# Altium integrated library Switches.IntLib: 2 symbols
Pins are listed as number, name and electrical type; pins without a type are passive.

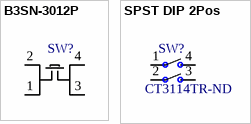
[diagram p0: symbols B3SN-3012P to SPST DIP 2Pos]

## B3SN-3012P
designator SW?
Manufacturer: Omron; Manufacturer Part Number: B3SN-3012P; Mechanical Life: 100000Cycles; Contact Current Rating: 50mA; Operating Force: 1.57N; Voltage Rating (DC): 24V; Throw Configuration: SPST; Contact Resistance: 100mR; Illumination Type: Non-Illuminated,Illuminated; Number of Poles: 1; Electrical Life: 50000Cycles; Switch Travel: 0.25mm; Switch Function: Off-Mom; IP Rating: IP67,Waterproof,Dust Tight; Supplier 1: Digi-Key; Stock 1: 48000; Pricing 1: 3000=0.52365 (USD); Mount: Surface Mount; Case/Package: SMD/SMT; Weight: 0.007055oz; Contact Material: Gold; Contact Plating: Gold; Min Operating Temperature: -25°C; Max Operating Temperature: 70°C; Packaging: Tape and Reel; Max Voltage Rating (DC): 24V; Package Quantity: 1; Max Current Rating: 50mA; Current Rating: 50mA; Termination: SMD/SMT; Orientation: Straight; Length: 6.5mm; Height: 3.1mm; Depth: 7mm; Radiation Hardening: No; REACH SVHC: Unknown; Lead Free: Contains Lead; ComponentLink1URL: https://datasheet.ciiva.com/1532/en-b3sn-1532676.pdf; ComponentLink1Description: https://datasheet.ciiva.com/1532/en-b3sn-1532676.pdf; ComponentLink2URL: https://datasheet.ciiva.com/16154/en-b3sn-16154998.pdf; ComponentLink2Description: https://datasheet.ciiva.com/16154/en-b3sn-16154998.pdf; ComponentLink3URL: https://datasheet.ciiva.com/2900/b3sn-1110-2900023.pdf; ComponentLink3Description: https://datasheet.ciiva.com/2900/b3sn-1110-2900023.pdf; ComponentLink4URL: https://datasheet.ciiva.com/5283/en-b3sn-371257-5283623.pdf; ComponentLink4Description: https://datasheet.ciiva.com/5283/en-b3sn-371257-5283623.pdf; ComponentLink5URL: https://datasheet.ciiva.com/2900/b3sn-1110-2900024.pdf; ComponentLink5Description: https://datasheet.ciiva.com/2900/b3sn-1110-2900024.pdf; ComponentLink6URL: https://datasheet.ciiva.com/2900/b3sn-1110-2900025.pdf; ComponentLink6Description: https://datasheet.ciiva.com/2900/b3sn-1110-2900025.pdf; ComponentLink7URL: https://datasheet.ciiva.com/15183/getdatasheetpartid-87284-15183738.pdf; ComponentLink7Description: https://datasheet.ciiva.com/15183/getdatasheetpartid-87284-15183738.pdf; ComponentLink8URL: https://datasheet.ciiva.com/30076/en-b3sn-30076973.pdf; ComponentLink8Description: https://datasheet.ciiva.com/30076/en-b3sn-30076973.pdf; Supplier Part Number 1: SW261TR-ND
footprint B3SN-3012P
pins: 1, 2, 3, 4

## SPST DIP 2Pos
designator SW?  Supplier Part Number 1: CT3114TR-ND
Manufacturer: CTS; Manufacturer Part Number: 219-2MSTR; Mechanical Life: 2000Cycles; Throw Configuration: SPST; Voltage Rating (DC): 20V; Number of Positions: 2; Current Rating: 100mA; Pitch: 0.1inch; Washable: Yes; Supplier 1: Digi-Key; Stock 1: 16000; Pricing 1: 1000=0.441, 5000=0.3591 (USD); Mount: Surface Mount; Contact Material: Copper; Contact Plating: Tin,Gold; Min Operating Temperature: -55°C; Max Operating Temperature: 85°C; Packaging: Tape and Reel; Termination: Gull Wing; Electrical Life: 2000Cycles; Max Voltage Rating (DC): 20V; Max Current Rating: 100mA; Package Quantity: 1000; Orientation: Straight; Length: 0.258inch; Terminal Pitch: 2.54mm; Depth: 9.91mm; Radiation Hardening: No; Lead Free: Lead Free; ComponentLink1URL: https://datasheet.ciiva.com/15210/getdatasheetpartid-92384-15210150.pdf; ComponentLink1Description: https://datasheet.ciiva.com/15210/getdatasheetpartid-92384-15210150.pdf; ComponentLink2URL: https://datasheet.ciiva.com/8679/219-8679450.pdf; ComponentLink2Description: https://datasheet.ciiva.com/8679/219-8679450.pdf; ComponentLink3URL: https://datasheet.ciiva.com/16316/219-16316219.pdf; ComponentLink3Description: https://datasheet.ciiva.com/16316/219-16316219.pdf
footprint SOP254P990X385-4N (SOP, 4-Leads, Body 6.55x6.70mm, Pitch 2.54mm, IPC Medium Density)
pins: 1, 2, 3 4, 4